# Altium footprint library QFP_Thin_Rect_65P_Side_L.PcbLib: 1 footprints
Each footprint in its own frame and in the unit in brackets; x right, y up, seen from the top. Pads: shape width x height; smd on the part's side, far side on the other; paste and mask are expansions set on the pad; w line width, h text height; cw(c..) or ccw(c..) is an arc to the next point about the centre after c.
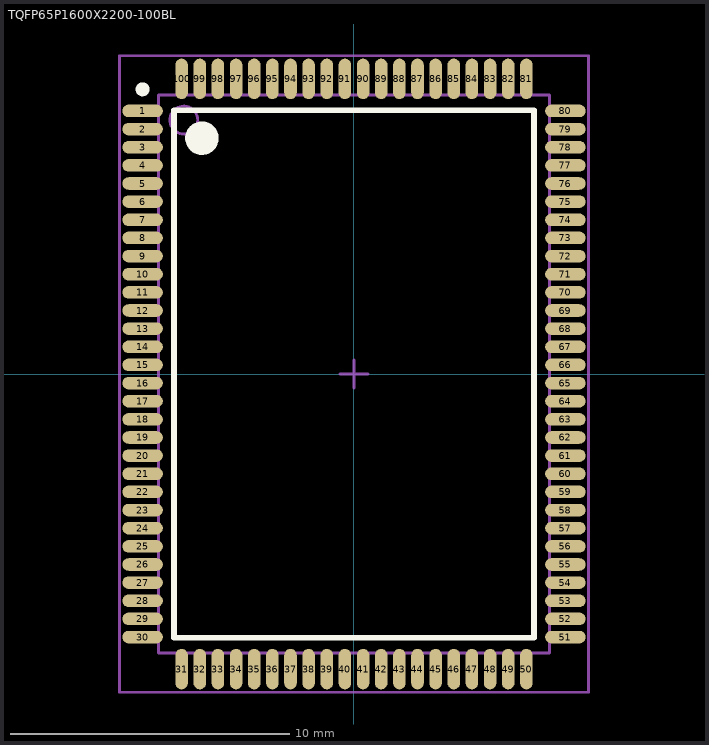
[diagram p0: the footprint, top view; thin cyan lines are the x and y axes]

## TQFP65P1600X2200-100BL [mm] "Thin QFP, 100-Leads, Body 20x14mm, Pitch 0.65mm, IPC High Density"
height 1.6
pads (100):
  oval 1.45x0.45 smd: 1(-7.575,9.425) 2(-7.575,8.775) 3(-7.575,8.125) 4(-7.575,7.475) 5(-7.575,6.825) 6(-7.575,6.175) 7(-7.575,5.525) 8(-7.575,4.875) 9(-7.575,4.225) 10(-7.575,3.575) 11(-7.575,2.925) 12(-7.575,2.275) 13(-7.575,1.625) 14(-7.575,0.975) 15(-7.575,0.325) 16(-7.575,-0.325) 17(-7.575,-0.975) 18(-7.575,-1.625) 19(-7.575,-2.275) 20(-7.575,-2.925) 21(-7.575,-3.575) 22(-7.575,-4.225) 23(-7.575,-4.875) 24(-7.575,-5.525) 25(-7.575,-6.175) 26(-7.575,-6.825) 27(-7.575,-7.475) 28(-7.575,-8.125) 29(-7.575,-8.775) 30(-7.575,-9.425) 51(7.575,-9.425) 52(7.575,-8.775) 53(7.575,-8.125) 54(7.575,-7.475) 55(7.575,-6.825) 56(7.575,-6.175) 57(7.575,-5.525) 58(7.575,-4.875) 59(7.575,-4.225) 60(7.575,-3.575) 61(7.575,-2.925) 62(7.575,-2.275) 63(7.575,-1.625) 64(7.575,-0.975) 65(7.575,-0.325) 66(7.575,0.325) 67(7.575,0.975) 68(7.575,1.625) 69(7.575,2.275) 70(7.575,2.925) 71(7.575,3.575) 72(7.575,4.225) 73(7.575,4.875) 74(7.575,5.525) 75(7.575,6.175) 76(7.575,6.825) 77(7.575,7.475) 78(7.575,8.125) 79(7.575,8.775) 80(7.575,9.425)
  oval 0.45x1.45 smd: 31(-6.175,-10.575) 32(-5.525,-10.575) 33(-4.875,-10.575) 34(-4.225,-10.575) 35(-3.575,-10.575) 36(-2.925,-10.575) 37(-2.275,-10.575) 38(-1.625,-10.575) 39(-0.975,-10.575) 40(-0.325,-10.575) 41(0.325,-10.575) 42(0.975,-10.575) 43(1.625,-10.575) 44(2.275,-10.575) 45(2.925,-10.575) 46(3.575,-10.575) 47(4.225,-10.575) 48(4.875,-10.575) 49(5.525,-10.575) 50(6.175,-10.575) 81(6.175,10.575) 82(5.525,10.575) 83(4.875,10.575) 84(4.225,10.575) 85(3.575,10.575) 86(2.925,10.575) 87(2.275,10.575) 88(1.625,10.575) 89(0.975,10.575) 90(0.325,10.575) 91(-0.325,10.575) 92(-0.975,10.575) 93(-1.625,10.575) 94(-2.275,10.575) 95(-2.925,10.575) 96(-3.575,10.575) 97(-4.225,10.575) 98(-4.875,10.575) 99(-5.525,10.575) 100(-6.175,10.575)
Top Overlay:
  circle w0.25: c-7.575,10.2 r0.125
  circle w0.6: c-5.45,8.45 r0.3
  lines w0.2: -6.45,-9.45 -6.45,9.45 6.45,9.45 6.45,-9.45 -6.45,-9.45
Mechanical 13:
  circle w0.1: c-6.1,9.1 r0.5
  lines w0.1: -7,-10 -7,10 7,10 7,-10 -7,-10
Mechanical 15:
  lines w0.1: -0.5,0 0.5,0 ; 0,-0.5 0,0.5 ; -8.4,-11.4 -8.4,11.4 8.4,11.4 8.4,-11.4 -8.4,-11.4
3D body: height 1.6, standoff 0, extent -7,-10 7,10